# EAGLE library part MPU-6000 (library ic-Invensense)
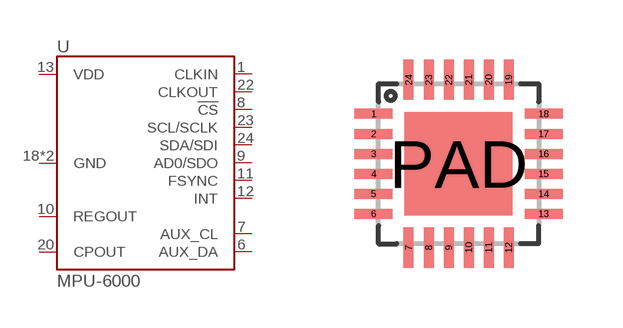
[diagram p0: symbol with the pads of QFN24-0.5; footprint QFN24-0.5]

Designator prefix U

## MPU-6000  [QFN24-0.5]
1  CLKIN
6  AUX_DA
7  AUX_CL
8  !CS
9  AD0/SDO
10  REGOUT
11  FSYNC
12  INT
13  VDD
18  GND
20  CPOUT
22  CLKOUT
23  SCL/SCLK
24  SDA/SDI
PAD  GND

## Footprint QFN24-0.5 (pad centres in mm)
smd 0.95 x 0.25: 1 -2.125,1.25; 2 -2.125,0.75; 3 -2.125,0.25; 4 -2.125,-0.25; 5 -2.125,-0.75; 6 -2.125,-1.25; 13 2.125,-1.25; 14 2.125,-0.75; 15 2.125,-0.25; 16 2.125,0.25; 17 2.125,0.75; 18 2.125,1.25
smd 0.25 x 1: 7 -1.25,-2.1; 8 -0.75,-2.1; 9 -0.25,-2.1; 10 0.25,-2.1; 11 0.75,-2.1; 12 1.25,-2.1; 19 1.25,2.1; 20 0.75,2.1; 21 0.25,2.1; 22 -0.25,2.1; 23 -0.75,2.1; 24 -1.25,2.1
smd 2.7 x 2.6: PAD 0,0